# EAGLE library part TEXAS_INSTRUMENTS-BUCK_CONVERTER-TPS54140_DGQ_10 (library Module_Regulators)
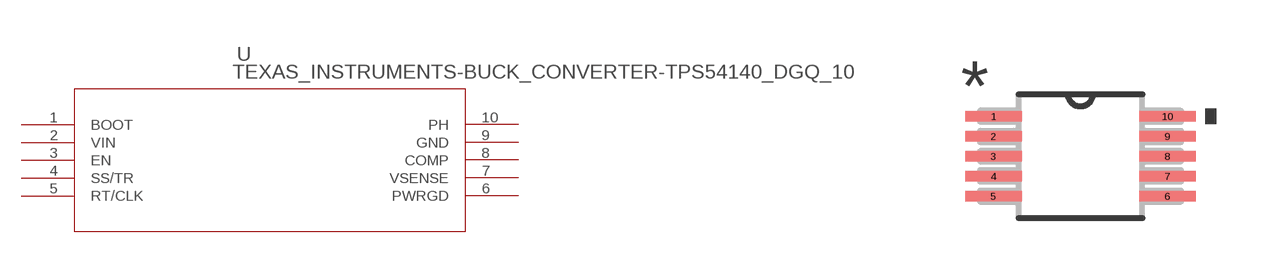
[diagram p15: symbol with the pads of TEXAS_INSTRUMENTS-BUCK_CONVERTER-TPS54140_DGQ_10; footprint TEXAS_INSTRUMENTS-BUCK_CONVERTER-TPS54140_DGQ_10]

Designator prefix U

## TEXAS_INSTRUMENTS-BUCK_CONVERTER-TPS54140_DGQ_10 (DATASHEETURL: httpwww.ti.comlitgpnTPS54140; FAMILY_NAME: STEPDOWN REGULATOR; GENERIC_PART_NUMBER: TPS54140; INDUSTRY_STD_PKG_TYPE: MSOPPowerPAD; MANUFACTURER: Texas Instruments; MANUFACTURER_PART_NUMBER: tps54140_dgq_10; PACKAGE_DESIGNATOR: DGQ; PIN_COUNT: 10; VENDOR: Texas Instruments)  [TEXAS_INSTRUMENTS-BUCK_CONVERTER-TPS54140_DGQ_10]
1  BOOT  out
2  VIN  in
3  EN  in
4  SS/TR  in
5  RT/CLK  in
6  PWRGD  out
7  VSENSE  in
8  COMP  out
9  GND  pwr
10  PH  in

## Footprint TEXAS_INSTRUMENTS-BUCK_CONVERTER-TPS54140_DGQ_10 (pad centres in mm)
smd 1.411 x 0.27: 1 -2.175,1; 2 -2.175,0.5; 3 -2.175,0; 4 -2.175,-0.5; 5 -2.175,-1; 6 2.175,-1; 7 2.175,-0.5; 8 2.175,0; 9 2.175,0.5; 10 2.175,1